# Altium footprint library fans.PcbLib: 2 footprints
Each footprint in its own frame and in the unit in brackets; x right, y up, seen from the top. Pads: shape width x height; smd on the part's side, far side on the other; paste and mask are expansions set on the pad; w line width, h text height; cw(c..) or ccw(c..) is an arc to the next point about the centre after c.
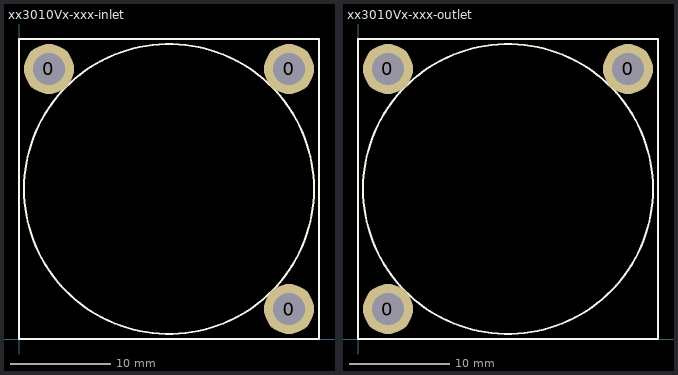
[diagram p0: the footprints below, top view; thin cyan lines are the x and y axes]

## xx3010Vx-xxx-inlet [mm] "Sunon 30x30x10 mm DC Fan"
pads (3):
  round 5 hole 3.2: 0(3,27) 0(27,3) 0(27,27)
Top Overlay:
  circle w0.2: c15,15 r14.5
  lines w0.2: 0,0 30,0 30,30 0,30 0,0
3D body "KDE0503PFB3.step": height 10, standoff 0, extent -0.046,0.002 29.954,30.002

## xx3010Vx-xxx-outlet [mm] "Sunon 30x30x10 mm DC Fan"
pads (3):
  round 5 hole 3.2: 0(3,3) 0(3,27) 0(27,27)
Top Overlay:
  circle w0.2: c15,15 r14.5
  lines w0.2: 0,0 30,0 30,30 0,30 0,0
3D body "KDE0503PFB3.step": height 10, standoff 0, extent -0.046,0.002 29.954,30.002